# Altium footprint library 排针-排母.PcbLib: 177 footprints (part 3 of 12)
Each footprint in its own frame and in the unit in brackets; x right, y up, seen from the top. Pads: shape width x height; smd on the part's side, far side on the other; paste and mask are expansions set on the pad; w line width, h text height; cw(c..) or ccw(c..) is an arc to the next point about the centre after c.
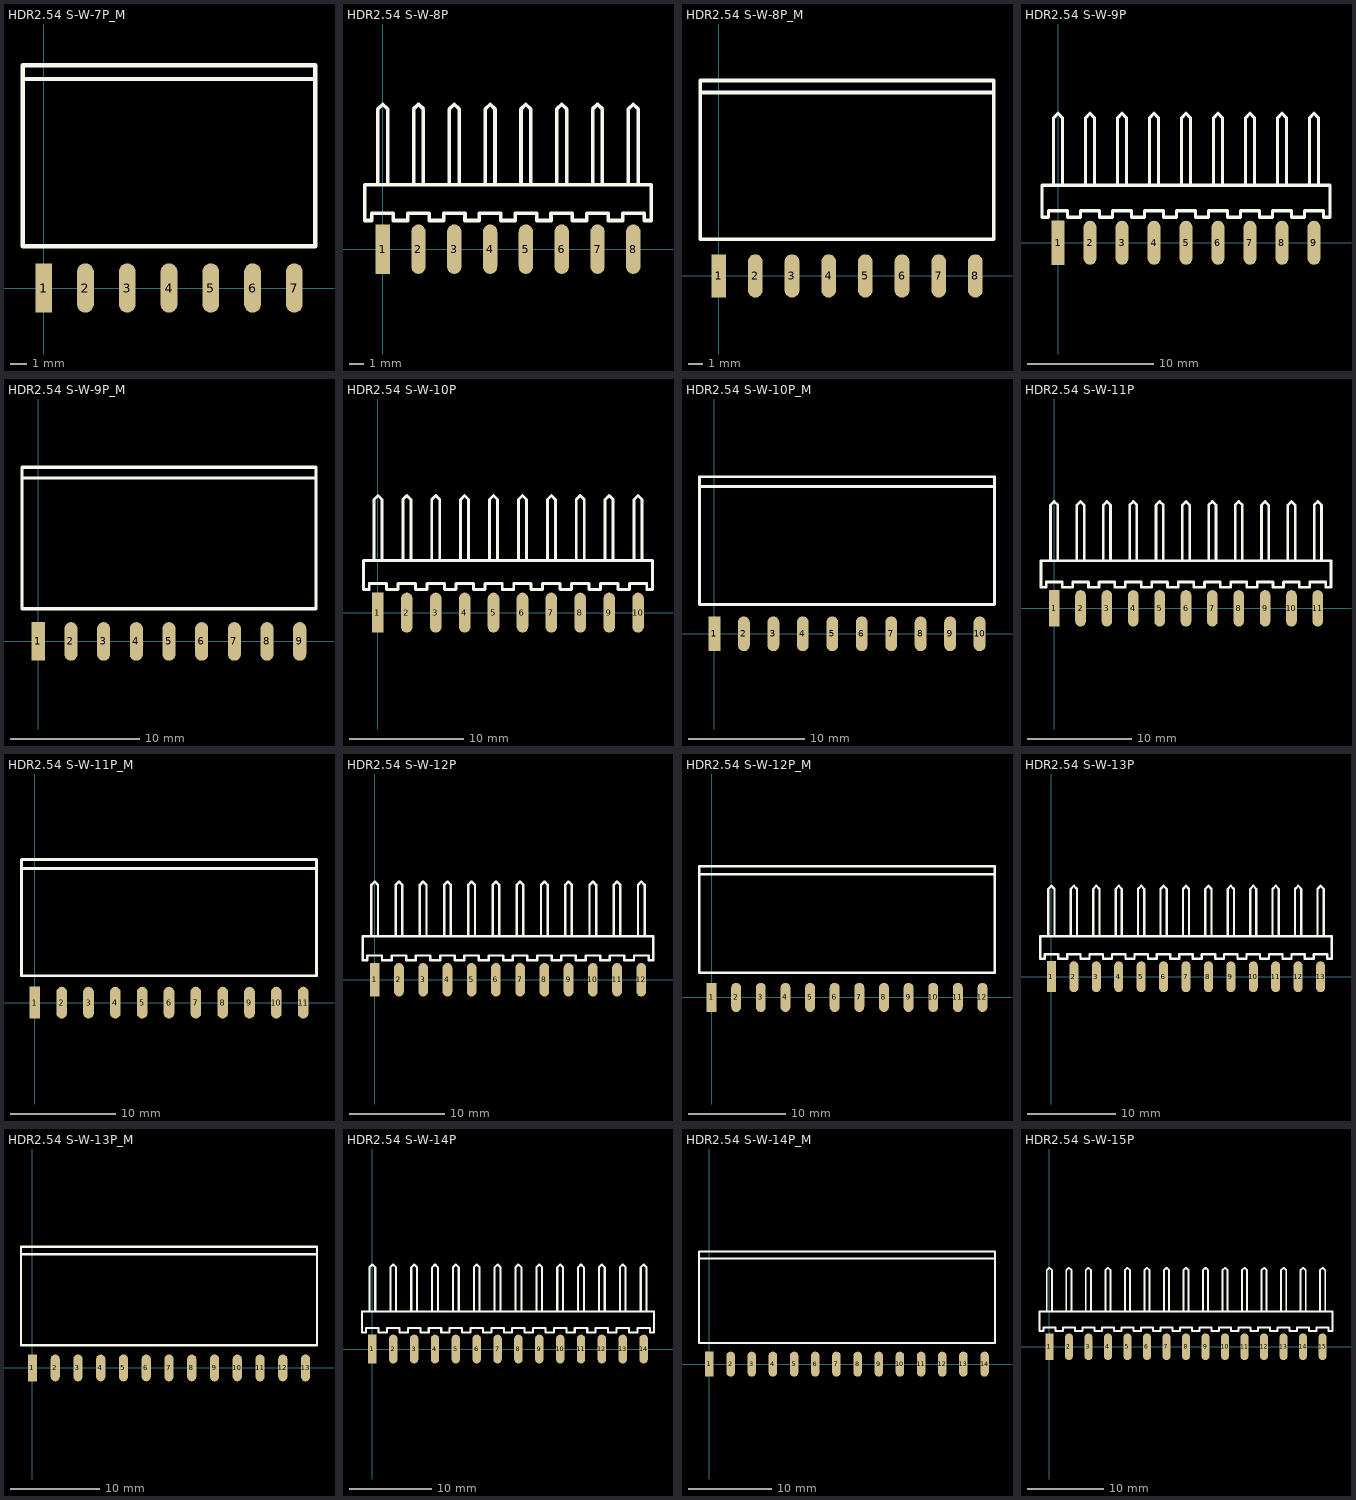
[diagram p2: the footprints below, top view; thin cyan lines are the x and y axes]

## HDR2.54 S-W-7P_M [mm] "7P卧式贴片排母2.54"
pads (7):
  rect 1.02x3 smd: 1(0,0)
  oval 1.02x3 smd: 2(2.54,0) 3(5.08,0) 4(7.62,0) 5(10.16,0) 6(12.7,0) 7(15.24,0)
Top Overlay:
  lines w0.254: -1.27,12.7 1.27,12.7 3.81,12.7 6.35,12.7 8.89,12.7 11.43,12.7 13.97,12.7 16.51,12.7 ; -1.27,2.54 1.27,2.54 3.81,2.54 6.35,2.54 8.89,2.54 11.43,2.54 13.97,2.54 16.51,2.54 16.51,13.54 13.97,13.54 11.43,13.54 8.89,13.54 6.35,13.54 3.81,13.54 1.27,13.54 -1.27,13.54 -1.27,2.54
3D body: height 2.54, standoff -0.01, extent -1.27,-0.43 1.27,13.54
3D body: height 2.54, standoff -0.01, extent 1.27,-0.43 3.81,13.54
3D body: height 2.54, standoff -0.01, extent 3.81,-0.43 6.35,13.54
3D body: height 2.54, standoff -0.01, extent 6.35,-0.43 8.89,13.54
3D body: height 2.54, standoff -0.01, extent 8.89,-0.43 11.43,13.54
3D body: height 2.54, standoff -0.01, extent 11.43,-0.43 13.97,13.54
3D body: height 2.54, standoff -0.01, extent 13.97,-0.43 16.51,13.54

## HDR2.54 S-W-8P [mm] "8P卧式贴片排针2.54"
pads (8):
  rect 1.02x3.5 smd: 1(0,0)
  oval 1.02x3.5 smd: 2(2.54,0) 3(5.08,0) 4(7.62,0) 5(10.16,0) 6(12.7,0) 7(15.24,0) 8(17.78,0)
Top Overlay:
  lines w0.254: -0.35,4.572 -0.35,9.8 -0.35,9.937 0,10.287 0.35,9.937 0.35,9.8 0.35,4.572 ; 2.19,4.572 2.19,9.8 2.19,9.937 2.54,10.287 2.89,9.937 2.89,9.8 2.89,4.572 ; 4.73,4.572 4.73,9.8 4.73,9.937 5.08,10.287 5.43,9.937 5.43,9.8 5.43,4.572 ; 7.27,4.572 7.27,9.8 7.27,9.937 7.62,10.287 7.97,9.937 7.97,9.8 7.97,4.572 ; 9.81,4.572 9.81,9.8 9.81,9.937 10.16,10.287 10.51,9.937 10.51,9.8 10.51,4.572 ; 12.35,4.572 12.35,9.8 12.35,9.937 12.7,10.287 13.05,9.937 13.05,9.8 13.05,4.572 ; 14.89,4.572 14.89,9.8 14.89,9.937 15.24,10.287 15.59,9.937 15.59,9.8 15.59,4.572 ; 17.43,4.572 17.43,9.8 17.43,9.937 17.78,10.287 18.13,9.937 18.13,9.8 18.13,4.572 ; -1.27,2.032 -0.762,2.032 -0.762,2.54 0.508,2.54 0.762,2.54 0.762,2.032 1.27,2.032 1.778,2.032 1.778,2.54 3.048,2.54 3.302,2.54 3.302,2.032 3.81,2.032 4.318,2.032 4.318,2.54 5.588,2.54 5.842,2.54 5.842,2.032 6.35,2.032 6.858,2.032 6.858,2.54 8.128,2.54 8.382,2.54 8.382,2.032 8.89,2.032 9.398,2.032 9.398,2.54 10.668,2.54 10.922,2.54 10.922,2.032 11.43,2.032 11.938,2.032 11.938,2.54 13.208,2.54 13.462,2.54 13.462,2.032 13.97,2.032 14.478,2.032 14.478,2.54 15.748,2.54 16.002,2.54 16.002,2.032 16.51,2.032 17.018,2.032 17.018,2.54 18.288,2.54 18.542,2.54 18.542,2.032 19.05,2.032 19.05,4.572 16.51,4.572 13.97,4.572 11.43,4.572 8.89,4.572 6.35,4.572 3.81,4.572 1.27,4.572 -1.27,4.572 -1.27,2.032
3D body: height 2.54, standoff -0.01, extent 8.89,-0.76 11.43,10.34
3D body: height 2.54, standoff -0.01, extent 6.35,-0.76 8.89,10.34
3D body: height 2.54, standoff -0.01, extent 3.81,-0.76 6.35,10.34
3D body: height 2.54, standoff -0.01, extent 1.27,-0.76 3.81,10.34
3D body: height 2.54, standoff -0.01, extent -1.27,-0.76 1.27,10.34
3D body: height 2.54, standoff -0.01, extent 11.43,-0.76 13.97,10.34
3D body: height 2.54, standoff -0.01, extent 13.97,-0.76 16.51,10.34
3D body: height 2.54, standoff -0.01, extent 16.51,-0.76 19.05,10.34

## HDR2.54 S-W-8P_M [mm] "8P卧式贴片排母2.54"
pads (8):
  rect 1.02x3 smd: 1(0,0)
  oval 1.02x3 smd: 2(2.54,0) 3(5.08,0) 4(7.62,0) 5(10.16,0) 6(12.7,0) 7(15.24,0) 8(17.78,0)
Top Overlay:
  lines w0.254: -1.27,12.7 1.27,12.7 3.81,12.7 6.35,12.7 8.89,12.7 11.43,12.7 13.97,12.7 16.51,12.7 19.05,12.7 ; -1.27,2.54 1.27,2.54 3.81,2.54 6.35,2.54 8.89,2.54 11.43,2.54 13.97,2.54 16.51,2.54 19.05,2.54 19.05,13.54 16.51,13.54 13.97,13.54 11.43,13.54 8.89,13.54 6.35,13.54 3.81,13.54 1.27,13.54 -1.27,13.54 -1.27,2.54
3D body: height 2.54, standoff -0.01, extent 16.51,-0.43 19.05,13.54
3D body: height 2.54, standoff -0.01, extent -1.27,-0.43 1.27,13.54
3D body: height 2.54, standoff -0.01, extent 1.27,-0.43 3.81,13.54
3D body: height 2.54, standoff -0.01, extent 3.81,-0.43 6.35,13.54
3D body: height 2.54, standoff -0.01, extent 6.35,-0.43 8.89,13.54
3D body: height 2.54, standoff -0.01, extent 8.89,-0.43 11.43,13.54
3D body: height 2.54, standoff -0.01, extent 11.43,-0.43 13.97,13.54
3D body: height 2.54, standoff -0.01, extent 13.97,-0.43 16.51,13.54

## HDR2.54 S-W-9P [mm] "9P卧式贴片排针2.54"
pads (9):
  rect 1.02x3.5 smd: 1(0,0)
  oval 1.02x3.5 smd: 2(2.54,0) 3(5.08,0) 4(7.62,0) 5(10.16,0) 6(12.7,0) 7(15.24,0) 8(17.78,0) 9(20.32,0)
Top Overlay:
  lines w0.254: -0.35,4.572 -0.35,9.8 -0.35,9.937 0,10.287 0.35,9.937 0.35,9.8 0.35,4.572 ; 2.19,4.572 2.19,9.8 2.19,9.937 2.54,10.287 2.89,9.937 2.89,9.8 2.89,4.572 ; 4.73,4.572 4.73,9.8 4.73,9.937 5.08,10.287 5.43,9.937 5.43,9.8 5.43,4.572 ; 7.27,4.572 7.27,9.8 7.27,9.937 7.62,10.287 7.97,9.937 7.97,9.8 7.97,4.572 ; 9.81,4.572 9.81,9.8 9.81,9.937 10.16,10.287 10.51,9.937 10.51,9.8 10.51,4.572 ; 12.35,4.572 12.35,9.8 12.35,9.937 12.7,10.287 13.05,9.937 13.05,9.8 13.05,4.572 ; 14.89,4.572 14.89,9.8 14.89,9.937 15.24,10.287 15.59,9.937 15.59,9.8 15.59,4.572 ; 17.43,4.572 17.43,9.8 17.43,9.937 17.78,10.287 18.13,9.937 18.13,9.8 18.13,4.572 ; 19.97,4.572 19.97,9.8 19.97,9.937 20.32,10.287 20.67,9.937 20.67,9.8 20.67,4.572 ; -1.27,2.032 -0.762,2.032 -0.762,2.54 0.508,2.54 0.762,2.54 0.762,2.032 1.27,2.032 1.778,2.032 1.778,2.54 3.048,2.54 3.302,2.54 3.302,2.032 3.81,2.032 4.318,2.032 4.318,2.54 5.588,2.54 5.842,2.54 5.842,2.032 6.35,2.032 6.858,2.032 6.858,2.54 8.128,2.54 8.382,2.54 8.382,2.032 8.89,2.032 9.398,2.032 9.398,2.54 10.668,2.54 10.922,2.54 10.922,2.032 11.43,2.032 11.938,2.032 11.938,2.54 13.208,2.54 13.462,2.54 13.462,2.032 13.97,2.032 14.478,2.032 14.478,2.54 15.748,2.54 16.002,2.54 16.002,2.032 16.51,2.032 17.018,2.032 17.018,2.54 18.288,2.54 18.542,2.54 18.542,2.032 19.05,2.032 19.558,2.032 19.558,2.54 20.828,2.54 21.082,2.54 21.082,2.032 21.59,2.032 21.59,4.572 19.05,4.572 16.51,4.572 13.97,4.572 11.43,4.572 8.89,4.572 6.35,4.572 3.81,4.572 1.27,4.572 -1.27,4.572 -1.27,2.032
3D body: height 2.54, standoff -0.01, extent 8.89,-0.76 11.43,10.34
3D body: height 2.54, standoff -0.01, extent 6.35,-0.76 8.89,10.34
3D body: height 2.54, standoff -0.01, extent 3.81,-0.76 6.35,10.34
3D body: height 2.54, standoff -0.01, extent 1.27,-0.76 3.81,10.34
3D body: height 2.54, standoff -0.01, extent -1.27,-0.76 1.27,10.34
3D body: height 2.54, standoff -0.01, extent 11.43,-0.76 13.97,10.34
3D body: height 2.54, standoff -0.01, extent 13.97,-0.76 16.51,10.34
3D body: height 2.54, standoff -0.01, extent 16.51,-0.76 19.05,10.34
3D body: height 2.54, standoff -0.01, extent 19.05,-0.76 21.59,10.34

## HDR2.54 S-W-9P_M [mm] "9P卧式贴片排母2.54"
pads (9):
  rect 1.02x3 smd: 1(0,0)
  oval 1.02x3 smd: 2(2.54,0) 3(5.08,0) 4(7.62,0) 5(10.16,0) 6(12.7,0) 7(15.24,0) 8(17.78,0) 9(20.32,0)
Top Overlay:
  lines w0.254: -1.27,12.7 1.27,12.7 3.81,12.7 6.35,12.7 8.89,12.7 11.43,12.7 13.97,12.7 16.51,12.7 19.05,12.7 21.59,12.7 ; -1.27,2.54 1.27,2.54 3.81,2.54 6.35,2.54 8.89,2.54 11.43,2.54 13.97,2.54 16.51,2.54 19.05,2.54 21.59,2.54 21.59,13.54 19.05,13.54 16.51,13.54 13.97,13.54 11.43,13.54 8.89,13.54 6.35,13.54 3.81,13.54 1.27,13.54 -1.27,13.54 -1.27,2.54
3D body: height 2.54, standoff -0.01, extent 19.05,-0.43 21.59,13.54
3D body: height 2.54, standoff -0.01, extent 16.51,-0.43 19.05,13.54
3D body: height 2.54, standoff -0.01, extent -1.27,-0.43 1.27,13.54
3D body: height 2.54, standoff -0.01, extent 1.27,-0.43 3.81,13.54
3D body: height 2.54, standoff -0.01, extent 3.81,-0.43 6.35,13.54
3D body: height 2.54, standoff -0.01, extent 6.35,-0.43 8.89,13.54
3D body: height 2.54, standoff -0.01, extent 8.89,-0.43 11.43,13.54
3D body: height 2.54, standoff -0.01, extent 11.43,-0.43 13.97,13.54
3D body: height 2.54, standoff -0.01, extent 13.97,-0.43 16.51,13.54

## HDR2.54 S-W-10P [mm] "10P卧式贴片排针2.54"
pads (10):
  rect 1.02x3.5 smd: 1(0,0)
  oval 1.02x3.5 smd: 2(2.54,0) 3(5.08,0) 4(7.62,0) 5(10.16,0) 6(12.7,0) 7(15.24,0) 8(17.78,0) 9(20.32,0) 10(22.86,0)
Top Overlay:
  lines w0.254: -0.35,4.572 -0.35,9.8 -0.35,9.937 0,10.287 0.35,9.937 0.35,9.8 0.35,4.572 ; 2.19,4.572 2.19,9.8 2.19,9.937 2.54,10.287 2.89,9.937 2.89,9.8 2.89,4.572 ; 4.73,4.572 4.73,9.8 4.73,9.937 5.08,10.287 5.43,9.937 5.43,9.8 5.43,4.572 ; 7.27,4.572 7.27,9.8 7.27,9.937 7.62,10.287 7.97,9.937 7.97,9.8 7.97,4.572 ; 9.81,4.572 9.81,9.8 9.81,9.937 10.16,10.287 10.51,9.937 10.51,9.8 10.51,4.572 ; 12.35,4.572 12.35,9.8 12.35,9.937 12.7,10.287 13.05,9.937 13.05,9.8 13.05,4.572 ; 14.89,4.572 14.89,9.8 14.89,9.937 15.24,10.287 15.59,9.937 15.59,9.8 15.59,4.572 ; 17.43,4.572 17.43,9.8 17.43,9.937 17.78,10.287 18.13,9.937 18.13,9.8 18.13,4.572 ; 19.97,4.572 19.97,9.8 19.97,9.937 20.32,10.287 20.67,9.937 20.67,9.8 20.67,4.572 ; 22.51,4.572 22.51,9.8 22.51,9.937 22.86,10.287 23.21,9.937 23.21,9.8 23.21,4.572 ; -1.27,2.032 -1.27,4.572 1.27,4.572 3.81,4.572 6.35,4.572 8.89,4.572 11.43,4.572 13.97,4.572 16.51,4.572 19.05,4.572 21.59,4.572 24.13,4.572 24.13,2.032 23.622,2.032 23.622,2.54 23.368,2.54 22.098,2.54 22.098,2.032 21.59,2.032 21.082,2.032 21.082,2.54 20.828,2.54 19.558,2.54 19.558,2.032 19.05,2.032 18.542,2.032 18.542,2.54 18.288,2.54 17.018,2.54 17.018,2.032 16.51,2.032 16.002,2.032 16.002,2.54 15.748,2.54 14.478,2.54 14.478,2.032 13.97,2.032 13.462,2.032 13.462,2.54 13.208,2.54 11.938,2.54 11.938,2.032 11.43,2.032 10.922,2.032 10.922,2.54 10.668,2.54 9.398,2.54 9.398,2.032 8.89,2.032 8.382,2.032 8.382,2.54 8.128,2.54 6.858,2.54 6.858,2.032 6.35,2.032 5.842,2.032 5.842,2.54 5.588,2.54 4.318,2.54 4.318,2.032 3.81,2.032 3.302,2.032 3.302,2.54 3.048,2.54 1.778,2.54 1.778,2.032 1.27,2.032 0.762,2.032 0.762,2.54 0.508,2.54 -0.762,2.54 -0.762,2.032 -1.27,2.032
3D body: height 2.54, standoff -0.01, extent 21.59,-0.76 24.13,10.34
3D body: height 2.54, standoff -0.01, extent 19.05,-0.76 21.59,10.34
3D body: height 2.54, standoff -0.01, extent 16.51,-0.76 19.05,10.34
3D body: height 2.54, standoff -0.01, extent 13.97,-0.76 16.51,10.34
3D body: height 2.54, standoff -0.01, extent 11.43,-0.76 13.97,10.34
3D body: height 2.54, standoff -0.01, extent -1.27,-0.76 1.27,10.34
3D body: height 2.54, standoff -0.01, extent 1.27,-0.76 3.81,10.34
3D body: height 2.54, standoff -0.01, extent 3.81,-0.76 6.35,10.34
3D body: height 2.54, standoff -0.01, extent 6.35,-0.76 8.89,10.34
3D body: height 2.54, standoff -0.01, extent 8.89,-0.76 11.43,10.34

## HDR2.54 S-W-10P_M [mm] "10P卧式贴片排母2.54"
pads (10):
  rect 1.02x3 smd: 1(0,0)
  oval 1.02x3 smd: 2(2.54,0) 3(5.08,0) 4(7.62,0) 5(10.16,0) 6(12.7,0) 7(15.24,0) 8(17.78,0) 9(20.32,0) 10(22.86,0)
Top Overlay:
  lines w0.254: -1.27,12.7 1.27,12.7 3.81,12.7 6.35,12.7 8.89,12.7 11.43,12.7 13.97,12.7 16.51,12.7 19.05,12.7 21.59,12.7 24.13,12.7 ; -1.27,2.54 1.27,2.54 3.81,2.54 6.35,2.54 8.89,2.54 11.43,2.54 13.97,2.54 16.51,2.54 19.05,2.54 21.59,2.54 24.13,2.54 24.13,13.54 21.59,13.54 19.05,13.54 16.51,13.54 13.97,13.54 11.43,13.54 8.89,13.54 6.35,13.54 3.81,13.54 1.27,13.54 -1.27,13.54 -1.27,2.54
3D body: height 2.54, standoff -0.01, extent 21.59,-0.43 24.13,13.54
3D body: height 2.54, standoff -0.01, extent 19.05,-0.43 21.59,13.54
3D body: height 2.54, standoff -0.01, extent 16.51,-0.43 19.05,13.54
3D body: height 2.54, standoff -0.01, extent -1.27,-0.43 1.27,13.54
3D body: height 2.54, standoff -0.01, extent 1.27,-0.43 3.81,13.54
3D body: height 2.54, standoff -0.01, extent 3.81,-0.43 6.35,13.54
3D body: height 2.54, standoff -0.01, extent 6.35,-0.43 8.89,13.54
3D body: height 2.54, standoff -0.01, extent 8.89,-0.43 11.43,13.54
3D body: height 2.54, standoff -0.01, extent 11.43,-0.43 13.97,13.54
3D body: height 2.54, standoff -0.01, extent 13.97,-0.43 16.51,13.54

## HDR2.54 S-W-11P [mm] "11P卧式贴片排针2.54"
pads (11):
  rect 1.02x3.5 smd: 1(0,0)
  oval 1.02x3.5 smd: 2(2.54,0) 3(5.08,0) 4(7.62,0) 5(10.16,0) 6(12.7,0) 7(15.24,0) 8(17.78,0) 9(20.32,0) 10(22.86,0) 11(25.4,0)
Top Overlay:
  lines w0.254: -0.35,4.572 -0.35,9.8 -0.35,9.937 0,10.287 0.35,9.937 0.35,9.8 0.35,4.572 ; 2.19,4.572 2.19,9.8 2.19,9.937 2.54,10.287 2.89,9.937 2.89,9.8 2.89,4.572 ; 4.73,4.572 4.73,9.8 4.73,9.937 5.08,10.287 5.43,9.937 5.43,9.8 5.43,4.572 ; 7.27,4.572 7.27,9.8 7.27,9.937 7.62,10.287 7.97,9.937 7.97,9.8 7.97,4.572 ; 9.81,4.572 9.81,9.8 9.81,9.937 10.16,10.287 10.51,9.937 10.51,9.8 10.51,4.572 ; 12.35,4.572 12.35,9.8 12.35,9.937 12.7,10.287 13.05,9.937 13.05,9.8 13.05,4.572 ; 14.89,4.572 14.89,9.8 14.89,9.937 15.24,10.287 15.59,9.937 15.59,9.8 15.59,4.572 ; 17.43,4.572 17.43,9.8 17.43,9.937 17.78,10.287 18.13,9.937 18.13,9.8 18.13,4.572 ; 19.97,4.572 19.97,9.8 19.97,9.937 20.32,10.287 20.67,9.937 20.67,9.8 20.67,4.572 ; 22.51,4.572 22.51,9.8 22.51,9.937 22.86,10.287 23.21,9.937 23.21,9.8 23.21,4.572 ; 25.05,4.572 25.05,9.8 25.05,9.937 25.4,10.287 25.75,9.937 25.75,9.8 25.75,4.572 ; -1.27,2.032 -1.27,4.572 1.27,4.572 3.81,4.572 6.35,4.572 8.89,4.572 11.43,4.572 13.97,4.572 16.51,4.572 19.05,4.572 21.59,4.572 24.13,4.572 26.67,4.572 26.67,2.032 26.162,2.032 26.162,2.54 25.908,2.54 24.638,2.54 24.638,2.032 24.13,2.032 23.622,2.032 23.622,2.54 23.368,2.54 22.098,2.54 22.098,2.032 21.59,2.032 21.082,2.032 21.082,2.54 20.828,2.54 19.558,2.54 19.558,2.032 19.05,2.032 18.542,2.032 18.542,2.54 18.288,2.54 17.018,2.54 17.018,2.032 16.51,2.032 16.002,2.032 16.002,2.54 15.748,2.54 14.478,2.54 14.478,2.032 13.97,2.032 13.462,2.032 13.462,2.54 13.208,2.54 11.938,2.54 11.938,2.032 11.43,2.032 10.922,2.032 10.922,2.54 10.668,2.54 9.398,2.54 9.398,2.032 8.89,2.032 8.382,2.032 8.382,2.54 8.128,2.54 6.858,2.54 6.858,2.032 6.35,2.032 5.842,2.032 5.842,2.54 5.588,2.54 4.318,2.54 4.318,2.032 3.81,2.032 3.302,2.032 3.302,2.54 3.048,2.54 1.778,2.54 1.778,2.032 1.27,2.032 0.762,2.032 0.762,2.54 0.508,2.54 -0.762,2.54 -0.762,2.032 -1.27,2.032
3D body: height 2.54, standoff -0.01, extent 24.13,-0.76 26.67,10.34
3D body: height 2.54, standoff -0.01, extent 21.59,-0.76 24.13,10.34
3D body: height 2.54, standoff -0.01, extent 19.05,-0.76 21.59,10.34
3D body: height 2.54, standoff -0.01, extent 16.51,-0.76 19.05,10.34
3D body: height 2.54, standoff -0.01, extent 13.97,-0.76 16.51,10.34
3D body: height 2.54, standoff -0.01, extent 11.43,-0.76 13.97,10.34
3D body: height 2.54, standoff -0.01, extent -1.27,-0.76 1.27,10.34
3D body: height 2.54, standoff -0.01, extent 1.27,-0.76 3.81,10.34
3D body: height 2.54, standoff -0.01, extent 3.81,-0.76 6.35,10.34
3D body: height 2.54, standoff -0.01, extent 6.35,-0.76 8.89,10.34
3D body: height 2.54, standoff -0.01, extent 8.89,-0.76 11.43,10.34

## HDR2.54 S-W-11P_M [mm] "11P卧式贴片排母2.54"
pads (11):
  rect 1.02x3 smd: 1(0,0)
  oval 1.02x3 smd: 2(2.54,0) 3(5.08,0) 4(7.62,0) 5(10.16,0) 6(12.7,0) 7(15.24,0) 8(17.78,0) 9(20.32,0) 10(22.86,0) 11(25.4,0)
Top Overlay:
  lines w0.254: -1.27,12.7 1.27,12.7 3.81,12.7 6.35,12.7 8.89,12.7 11.43,12.7 13.97,12.7 16.51,12.7 19.05,12.7 21.59,12.7 24.13,12.7 26.67,12.7 ; -1.27,2.54 1.27,2.54 3.81,2.54 6.35,2.54 8.89,2.54 11.43,2.54 13.97,2.54 16.51,2.54 19.05,2.54 21.59,2.54 24.13,2.54 26.67,2.54 26.67,13.54 24.13,13.54 21.59,13.54 19.05,13.54 16.51,13.54 13.97,13.54 11.43,13.54 8.89,13.54 6.35,13.54 3.81,13.54 1.27,13.54 -1.27,13.54 -1.27,2.54
3D body: height 2.54, standoff -0.01, extent 24.13,-0.43 26.67,13.54
3D body: height 2.54, standoff -0.01, extent 21.59,-0.43 24.13,13.54
3D body: height 2.54, standoff -0.01, extent 19.05,-0.43 21.59,13.54
3D body: height 2.54, standoff -0.01, extent 16.51,-0.43 19.05,13.54
3D body: height 2.54, standoff -0.01, extent -1.27,-0.43 1.27,13.54
3D body: height 2.54, standoff -0.01, extent 1.27,-0.43 3.81,13.54
3D body: height 2.54, standoff -0.01, extent 3.81,-0.43 6.35,13.54
3D body: height 2.54, standoff -0.01, extent 6.35,-0.43 8.89,13.54
3D body: height 2.54, standoff -0.01, extent 8.89,-0.43 11.43,13.54
3D body: height 2.54, standoff -0.01, extent 11.43,-0.43 13.97,13.54
3D body: height 2.54, standoff -0.01, extent 13.97,-0.43 16.51,13.54

## HDR2.54 S-W-12P [mm] "12P卧式贴片排针2.54"
pads (12):
  rect 1.02x3.5 smd: 1(0,0)
  oval 1.02x3.5 smd: 2(2.54,0) 3(5.08,0) 4(7.62,0) 5(10.16,0) 6(12.7,0) 7(15.24,0) 8(17.78,0) 9(20.32,0) 10(22.86,0) 11(25.4,0) 12(27.94,0)
Top Overlay:
  drawing of 158 lines, arcs and shapes, not listed
3D body: height 2.54, standoff -0.01, extent 26.67,-0.76 29.21,10.34
3D body: height 2.54, standoff -0.01, extent 24.13,-0.76 26.67,10.34
3D body: height 2.54, standoff -0.01, extent 21.59,-0.76 24.13,10.34
3D body: height 2.54, standoff -0.01, extent 19.05,-0.76 21.59,10.34
3D body: height 2.54, standoff -0.01, extent 16.51,-0.76 19.05,10.34
3D body: height 2.54, standoff -0.01, extent 13.97,-0.76 16.51,10.34
3D body: height 2.54, standoff -0.01, extent 11.43,-0.76 13.97,10.34
3D body: height 2.54, standoff -0.01, extent -1.27,-0.76 1.27,10.34
3D body: height 2.54, standoff -0.01, extent 1.27,-0.76 3.81,10.34
3D body: height 2.54, standoff -0.01, extent 3.81,-0.76 6.35,10.34
3D body: height 2.54, standoff -0.01, extent 6.35,-0.76 8.89,10.34
3D body: height 2.54, standoff -0.01, extent 8.89,-0.76 11.43,10.34

## HDR2.54 S-W-12P_M [mm] "12P卧式贴片排母2.54"
pads (12):
  rect 1.02x3 smd: 1(0,0)
  oval 1.02x3 smd: 2(2.54,0) 3(5.08,0) 4(7.62,0) 5(10.16,0) 6(12.7,0) 7(15.24,0) 8(17.78,0) 9(20.32,0) 10(22.86,0) 11(25.4,0) 12(27.94,0)
Top Overlay:
  lines w0.254: -1.27,12.7 1.27,12.7 3.81,12.7 6.35,12.7 8.89,12.7 11.43,12.7 13.97,12.7 16.51,12.7 19.05,12.7 21.59,12.7 24.13,12.7 26.67,12.7 29.21,12.7 ; -1.27,2.54 1.27,2.54 3.81,2.54 6.35,2.54 8.89,2.54 11.43,2.54 13.97,2.54 16.51,2.54 19.05,2.54 21.59,2.54 24.13,2.54 26.67,2.54 29.21,2.54 29.21,13.54 26.67,13.54 24.13,13.54 21.59,13.54 19.05,13.54 16.51,13.54 13.97,13.54 11.43,13.54 8.89,13.54 6.35,13.54 3.81,13.54 1.27,13.54 -1.27,13.54 -1.27,2.54
3D body: height 2.54, standoff -0.01, extent 26.67,-0.43 29.21,13.54
3D body: height 2.54, standoff -0.01, extent 24.13,-0.43 26.67,13.54
3D body: height 2.54, standoff -0.01, extent 21.59,-0.43 24.13,13.54
3D body: height 2.54, standoff -0.01, extent 19.05,-0.43 21.59,13.54
3D body: height 2.54, standoff -0.01, extent 16.51,-0.43 19.05,13.54
3D body: height 2.54, standoff -0.01, extent -1.27,-0.43 1.27,13.54
3D body: height 2.54, standoff -0.01, extent 1.27,-0.43 3.81,13.54
3D body: height 2.54, standoff -0.01, extent 3.81,-0.43 6.35,13.54
3D body: height 2.54, standoff -0.01, extent 6.35,-0.43 8.89,13.54
3D body: height 2.54, standoff -0.01, extent 8.89,-0.43 11.43,13.54
3D body: height 2.54, standoff -0.01, extent 11.43,-0.43 13.97,13.54
3D body: height 2.54, standoff -0.01, extent 13.97,-0.43 16.51,13.54

## HDR2.54 S-W-13P [mm] "13P卧式贴片排针2.54"
pads (13):
  rect 1.02x3.5 smd: 1(0,0)
  oval 1.02x3.5 smd: 2(2.54,0) 3(5.08,0) 4(7.62,0) 5(10.16,0) 6(12.7,0) 7(15.24,0) 8(17.78,0) 9(20.32,0) 10(22.86,0) 11(25.4,0) 12(27.94,0) 13(30.48,0)
Top Overlay:
  drawing of 171 lines, arcs and shapes, not listed
3D body: height 2.54, standoff -0.01, extent 29.21,-0.76 31.75,10.34
3D body: height 2.54, standoff -0.01, extent 26.67,-0.76 29.21,10.34
3D body: height 2.54, standoff -0.01, extent 24.13,-0.76 26.67,10.34
3D body: height 2.54, standoff -0.01, extent 21.59,-0.76 24.13,10.34
3D body: height 2.54, standoff -0.01, extent 19.05,-0.76 21.59,10.34
3D body: height 2.54, standoff -0.01, extent 16.51,-0.76 19.05,10.34
3D body: height 2.54, standoff -0.01, extent 13.97,-0.76 16.51,10.34
3D body: height 2.54, standoff -0.01, extent 11.43,-0.76 13.97,10.34
3D body: height 2.54, standoff -0.01, extent -1.27,-0.76 1.27,10.34
3D body: height 2.54, standoff -0.01, extent 1.27,-0.76 3.81,10.34
3D body: height 2.54, standoff -0.01, extent 3.81,-0.76 6.35,10.34
3D body: height 2.54, standoff -0.01, extent 6.35,-0.76 8.89,10.34
3D body: height 2.54, standoff -0.01, extent 8.89,-0.76 11.43,10.34

## HDR2.54 S-W-13P_M [mm] "13P卧式贴片排母2.54"
pads (13):
  rect 1.02x3 smd: 1(0,0)
  oval 1.02x3 smd: 2(2.54,0) 3(5.08,0) 4(7.62,0) 5(10.16,0) 6(12.7,0) 7(15.24,0) 8(17.78,0) 9(20.32,0) 10(22.86,0) 11(25.4,0) 12(27.94,0) 13(30.48,0)
Top Overlay:
  lines w0.254: -1.27,12.7 1.27,12.7 3.81,12.7 6.35,12.7 8.89,12.7 11.43,12.7 13.97,12.7 16.51,12.7 19.05,12.7 21.59,12.7 24.13,12.7 26.67,12.7 29.21,12.7 31.75,12.7 ; -1.27,2.54 1.27,2.54 3.81,2.54 6.35,2.54 8.89,2.54 11.43,2.54 13.97,2.54 16.51,2.54 19.05,2.54 21.59,2.54 24.13,2.54 26.67,2.54 29.21,2.54 31.75,2.54 31.75,13.54 29.21,13.54 26.67,13.54 24.13,13.54 21.59,13.54 19.05,13.54 16.51,13.54 13.97,13.54 11.43,13.54 8.89,13.54 6.35,13.54 3.81,13.54 1.27,13.54 -1.27,13.54 -1.27,2.54
3D body: height 2.54, standoff -0.01, extent 29.21,-0.43 31.75,13.54
3D body: height 2.54, standoff -0.01, extent 26.67,-0.43 29.21,13.54
3D body: height 2.54, standoff -0.01, extent 24.13,-0.43 26.67,13.54
3D body: height 2.54, standoff -0.01, extent 21.59,-0.43 24.13,13.54
3D body: height 2.54, standoff -0.01, extent 19.05,-0.43 21.59,13.54
3D body: height 2.54, standoff -0.01, extent 16.51,-0.43 19.05,13.54
3D body: height 2.54, standoff -0.01, extent -1.27,-0.43 1.27,13.54
3D body: height 2.54, standoff -0.01, extent 1.27,-0.43 3.81,13.54
3D body: height 2.54, standoff -0.01, extent 3.81,-0.43 6.35,13.54
3D body: height 2.54, standoff -0.01, extent 6.35,-0.43 8.89,13.54
3D body: height 2.54, standoff -0.01, extent 8.89,-0.43 11.43,13.54
3D body: height 2.54, standoff -0.01, extent 11.43,-0.43 13.97,13.54
3D body: height 2.54, standoff -0.01, extent 13.97,-0.43 16.51,13.54

## HDR2.54 S-W-14P [mm] "14P卧式贴片排针2.54"
pads (14):
  rect 1.02x3.5 smd: 1(0,0)
  oval 1.02x3.5 smd: 2(2.54,0) 3(5.08,0) 4(7.62,0) 5(10.16,0) 6(12.7,0) 7(15.24,0) 8(17.78,0) 9(20.32,0) 10(22.86,0) 11(25.4,0) 12(27.94,0) 13(30.48,0) 14(33.02,0)
Top Overlay:
  drawing of 184 lines, arcs and shapes, not listed
3D body: height 2.54, standoff -0.01, extent 29.21,-0.76 31.75,10.34
3D body: height 2.54, standoff -0.01, extent 26.67,-0.76 29.21,10.34
3D body: height 2.54, standoff -0.01, extent 24.13,-0.76 26.67,10.34
3D body: height 2.54, standoff -0.01, extent 21.59,-0.76 24.13,10.34
3D body: height 2.54, standoff -0.01, extent 19.05,-0.76 21.59,10.34
3D body: height 2.54, standoff -0.01, extent 16.51,-0.76 19.05,10.34
3D body: height 2.54, standoff -0.01, extent 13.97,-0.76 16.51,10.34
3D body: height 2.54, standoff -0.01, extent 11.43,-0.76 13.97,10.34
3D body: height 2.54, standoff -0.01, extent -1.27,-0.76 1.27,10.34
3D body: height 2.54, standoff -0.01, extent 1.27,-0.76 3.81,10.34
3D body: height 2.54, standoff -0.01, extent 3.81,-0.76 6.35,10.34
3D body: height 2.54, standoff -0.01, extent 6.35,-0.76 8.89,10.34
3D body: height 2.54, standoff -0.01, extent 8.89,-0.76 11.43,10.34
3D body: height 2.54, standoff -0.01, extent 31.75,-0.76 34.29,10.34

## HDR2.54 S-W-14P_M [mm] "14P卧式贴片排母2.54"
pads (14):
  rect 1.02x3 smd: 1(0,0)
  oval 1.02x3 smd: 2(2.54,0) 3(5.08,0) 4(7.62,0) 5(10.16,0) 6(12.7,0) 7(15.24,0) 8(17.78,0) 9(20.32,0) 10(22.86,0) 11(25.4,0) 12(27.94,0) 13(30.48,0) 14(33.02,0)
Top Overlay:
  lines w0.254: -1.27,12.7 1.27,12.7 3.81,12.7 6.35,12.7 8.89,12.7 11.43,12.7 13.97,12.7 16.51,12.7 19.05,12.7 21.59,12.7 24.13,12.7 26.67,12.7 29.21,12.7 31.75,12.7 34.29,12.7 ; -1.27,2.54 1.27,2.54 3.81,2.54 6.35,2.54 8.89,2.54 11.43,2.54 13.97,2.54 16.51,2.54 19.05,2.54 21.59,2.54 24.13,2.54 26.67,2.54 29.21,2.54 31.75,2.54 34.29,2.54 34.29,13.54 31.75,13.54 29.21,13.54 26.67,13.54 24.13,13.54 21.59,13.54 19.05,13.54 16.51,13.54 13.97,13.54 11.43,13.54 8.89,13.54 6.35,13.54 3.81,13.54 1.27,13.54 -1.27,13.54 -1.27,2.54
3D body: height 2.54, standoff -0.01, extent 31.75,-0.43 34.29,13.54
3D body: height 2.54, standoff -0.01, extent 29.21,-0.43 31.75,13.54
3D body: height 2.54, standoff -0.01, extent 26.67,-0.43 29.21,13.54
3D body: height 2.54, standoff -0.01, extent 24.13,-0.43 26.67,13.54
3D body: height 2.54, standoff -0.01, extent 21.59,-0.43 24.13,13.54
3D body: height 2.54, standoff -0.01, extent 19.05,-0.43 21.59,13.54
3D body: height 2.54, standoff -0.01, extent 16.51,-0.43 19.05,13.54
3D body: height 2.54, standoff -0.01, extent -1.27,-0.43 1.27,13.54
3D body: height 2.54, standoff -0.01, extent 1.27,-0.43 3.81,13.54
3D body: height 2.54, standoff -0.01, extent 3.81,-0.43 6.35,13.54
3D body: height 2.54, standoff -0.01, extent 6.35,-0.43 8.89,13.54
3D body: height 2.54, standoff -0.01, extent 8.89,-0.43 11.43,13.54
3D body: height 2.54, standoff -0.01, extent 11.43,-0.43 13.97,13.54
3D body: height 2.54, standoff -0.01, extent 13.97,-0.43 16.51,13.54

## HDR2.54 S-W-15P [mm] "15P卧式贴片排针2.54"
pads (15):
  rect 1.02x3.5 smd: 1(0,0)
  oval 1.02x3.5 smd: 2(2.54,0) 3(5.08,0) 4(7.62,0) 5(10.16,0) 6(12.7,0) 7(15.24,0) 8(17.78,0) 9(20.32,0) 10(22.86,0) 11(25.4,0) 12(27.94,0) 13(30.48,0) 14(33.02,0) 15(35.56,0)
Top Overlay:
  drawing of 197 lines, arcs and shapes, not listed
3D body: height 2.54, standoff -0.01, extent 34.29,-0.76 36.83,10.34
3D body: height 2.54, standoff -0.01, extent 29.21,-0.76 31.75,10.34
3D body: height 2.54, standoff -0.01, extent 26.67,-0.76 29.21,10.34
3D body: height 2.54, standoff -0.01, extent 24.13,-0.76 26.67,10.34
3D body: height 2.54, standoff -0.01, extent 21.59,-0.76 24.13,10.34
3D body: height 2.54, standoff -0.01, extent 19.05,-0.76 21.59,10.34
3D body: height 2.54, standoff -0.01, extent 16.51,-0.76 19.05,10.34
3D body: height 2.54, standoff -0.01, extent 13.97,-0.76 16.51,10.34
3D body: height 2.54, standoff -0.01, extent 11.43,-0.76 13.97,10.34
3D body: height 2.54, standoff -0.01, extent -1.27,-0.76 1.27,10.34
3D body: height 2.54, standoff -0.01, extent 1.27,-0.76 3.81,10.34
3D body: height 2.54, standoff -0.01, extent 3.81,-0.76 6.35,10.34
3D body: height 2.54, standoff -0.01, extent 6.35,-0.76 8.89,10.34
3D body: height 2.54, standoff -0.01, extent 8.89,-0.76 11.43,10.34
3D body: height 2.54, standoff -0.01, extent 31.75,-0.76 34.29,10.34